# EAGLE library part HMC6352 (library compassensor)
Low Voltage Microphone Preamplifier with Variable Compression and Noise Gating Source: http://www.analog.com .. SSM2167.pdf
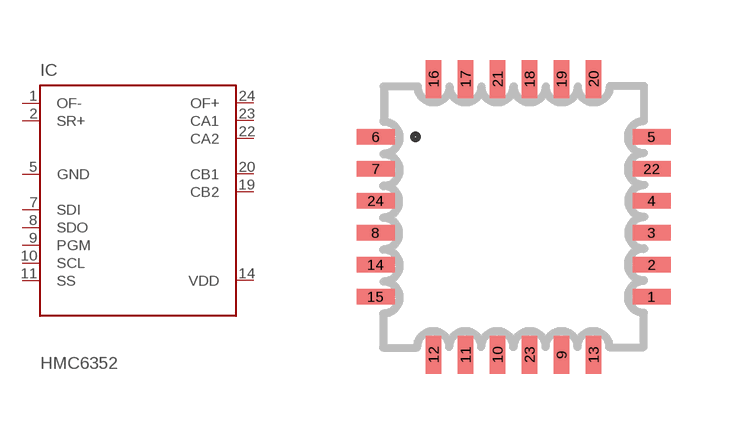
[diagram p0: symbol with the pads of HCM6352; footprint HCM6352]

Designator prefix IC

## HMC6352  [HCM6352]
1  OF-  out
2  SR+  out
5  GND  out
7  SDI  out
8  SDO  in
9  PGM  in
10  SCL  out
11  SS  out
14  VDD  out
19  CB2  in
20  CB1  out
22  CA2  pas
23  CA1  pas
24  OF+  pas

## Footprint HCM6352 (pad centres in mm)
PLASTIC LEADED CHIP CARRIER
smd 0.95 x 0.38: 1 3.45,-2; 2 3.45,-1.2; 3 3.45,-0.4; 4 3.45,0.4; 5 3.45,2; 6 -3.45,2; 7 -3.45,1.2; 8 -3.45,-0.4; 14 -3.45,-1.2; 15 -3.45,-2; 22 3.45,1.2; 24 -3.45,0.4
smd 0.38 x 0.95: 9 1.2,-3.45; 10 -0.4,-3.45; 11 -1.2,-3.45; 12 -2,-3.45; 13 2,-3.45; 16 -2,3.45; 17 -1.2,3.45; 18 0.4,3.45; 19 1.2,3.45; 20 2,3.45; 21 -0.4,3.45; 23 0.4,-3.45